# EAGLE library part IS31FL3726 (library ISSI)
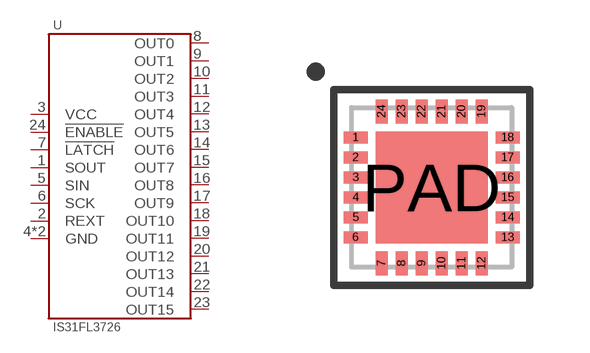
[diagram p1: symbol with the pads of QFN-24-4X4; footprint QFN-24-4X4]

Designator prefix U

## IS31FL3726-QFLS2-TR  [QFN-24-4X4]
1  SOUT
2  REXT
3  VCC
4  GND
5  SIN
6  SCK
7  !LATCH
8  OUT0
9  OUT1
10  OUT2
11  OUT3
12  OUT4
13  OUT5
14  OUT6
15  OUT7
16  OUT8
17  OUT9
18  OUT10
19  OUT11
20  OUT12
21  OUT13
22  OUT14
23  OUT15
24  !ENABLE
PAD  GND

## Footprint QFN-24-4X4 (pad centres in mm)
smd 0.6 x 0.3: 1 -1.9,1.25; 2 -1.9,0.75; 3 -1.9,0.25; 4 -1.9,-0.25; 5 -1.9,-0.75; 6 -1.9,-1.25; 13 1.9,-1.25; 14 1.9,-0.75; 15 1.9,-0.25; 16 1.9,0.25; 17 1.9,0.75; 18 1.9,1.25
smd 0.3 x 0.6: 7 -1.25,-1.9; 8 -0.75,-1.9; 9 -0.25,-1.9; 10 0.25,-1.9; 11 0.75,-1.9; 12 1.25,-1.9; 19 1.25,1.9; 20 0.75,1.9; 21 0.25,1.9; 22 -0.25,1.9; 23 -0.75,1.9; 24 -1.25,1.9
smd 2.8 x 2.8: PAD 0,0